# Altium schematic symbol library TPD4S012.Schlib: 1 symbol
Pins are listed as number, name and electrical type; pins without a type are passive.

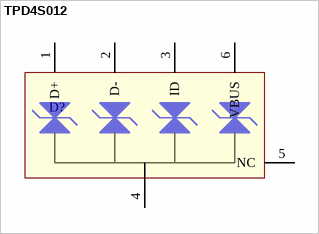
[diagram p0: symbol TPD4S012]

## TPD4S012
designator D?
USB ESD Supressor
pins: 1 D+, 2 D-, 3 ID, 4 GND, 5 NC, 6 VBUS
1 alternate drawing of the same symbol